# Altium integrated library ICS-41350.IntLib: 1 symbol
Pins are listed as number, name and electrical type; pins without a type are passive.

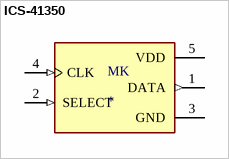
[diagram p0: symbol ICS-41350]

## ICS-41350
designator MK
50Hz ~ 40kHz Digital, PDM Microphone MEMS (Silicon) 1.65V ~ 3.63V Omnidirectional (-32dB Â±1dB) Solder Pads; MF: TDK InvenSense; MP: ICS-41350; Package: LGA-5 TDK-InvenSense; DigiKey-Purchase-URL: https://snapeda.com/shop?store=DigiKey&id=525470; Value: *; Digi-Key_Part_Number: 1428-1064-1-ND; SnapEDA_Link: https://www.snapeda.com/parts/ICS-41350/TDK%20InvenSense/view-part/525470/?ref=snap
footprint MIC_ICS-41350
pins: 1 DATA (out), 2 SELECT (in), 3 GND (power), 4 CLK (in), 5 VDD (power)